# Altium schematic symbol library SCH - MCU - STM32 - ST MICROELECTRONICS STM32G071EBYX WLCSP25.SchLib: 1 symbol
Pins are listed as number, name and electrical type; pins without a type are passive.

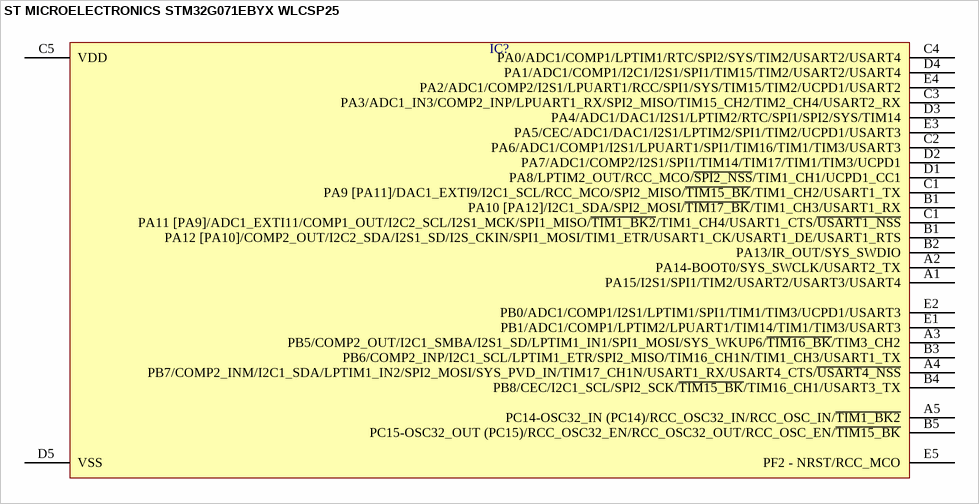
[diagram p0: symbol ST MICROELECTRONICS STM32G071EBYX WLCSP25]

## ST MICROELECTRONICS STM32G071EBYX WLCSP25
designator IC?  (value not drawn)
pins: A1 PA15/I2S1/SPI1/TIM2/USART2/USART3/USART4, A2 PA14-BOOT0/SYS_SWCLK/USART2_TX, A3 PB5/COMP2_OUT/I2C1_SMBA/I2S1_SD/LPTIM1_IN1/SPI1_MOSI/SYS_WKUP6/~{TIM16_BK}/TIM3_CH2, A4 PB7/COMP2_INM/I2C1_SDA/LPTIM1_IN2/SPI2_MOSI/SYS_PVD_IN/TIM17_CH1N/USART1_RX/USART4_CTS/~{USART4_NSS}, A5 PC14-OSC32_IN (PC14)/RCC_OSC32_IN/RCC_OSC_IN/~{TIM1_BK2}, B1 PA10 [PA12]/I2C1_SDA/SPI2_MOSI/~{TIM17_BK}/TIM1_CH3/USART1_RX, B1 PA12 [PA10]/COMP2_OUT/I2C2_SDA/I2S1_SD/I2S_CKIN/SPI1_MOSI/TIM1_ETR/USART1_CK/USART1_DE/USART1_RTS, B2 PA13/IR_OUT/SYS_SWDIO, B3 PB6/COMP2_INP/I2C1_SCL/LPTIM1_ETR/SPI2_MISO/TIM16_CH1N/TIM1_CH3/USART1_TX, B4 PB8/CEC/I2C1_SCL/SPI2_SCK/~{TIM15_BK}/TIM16_CH1/USART3_TX, B5 PC15-OSC32_OUT (PC15)/RCC_OSC32_EN/RCC_OSC32_OUT/RCC_OSC_EN/~{TIM15_BK}, C1 PA9 [PA11]/DAC1_EXTI9/I2C1_SCL/RCC_MCO/SPI2_MISO/~{TIM15_BK}/TIM1_CH2/USART1_TX, C1 PA11 [PA9]/ADC1_EXTI11/COMP1_OUT/I2C2_SCL/I2S1_MCK/SPI1_MISO/~{TIM1_BK2}/TIM1_CH4/USART1_CTS/~{USART1_NSS}, C2 PA6/ADC1/COMP1/I2S1/LPUART1/SPI1/TIM16/TIM1/TIM3/USART3, C3 PA3/ADC1_IN3/COMP2_INP/LPUART1_RX/SPI2_MISO/TIM15_CH2/TIM2_CH4/USART2_RX, C4 PA0/ADC1/COMP1/LPTIM1/RTC/SPI2/SYS/TIM2/USART2/USART4, C5 VDD, D1 PA8/LPTIM2_OUT/RCC_MCO/~{SPI2_NSS}/TIM1_CH1/UCPD1_CC1, D2 PA7/ADC1/COMP2/I2S1/SPI1/TIM14/TIM17/TIM1/TIM3/UCPD1, D3 PA4/ADC1/DAC1/I2S1/LPTIM2/RTC/SPI1/SPI2/SYS/TIM14, D4 PA1/ADC1/COMP1/I2C1/I2S1/SPI1/TIM15/TIM2/USART2/USART4, D5 VSS, E1 PB1/ADC1/COMP1/LPTIM2/LPUART1/TIM14/TIM1/TIM3/USART3, E2 PB0/ADC1/COMP1/I2S1/LPTIM1/SPI1/TIM1/TIM3/UCPD1/USART3, E3 PA5/CEC/ADC1/DAC1/I2S1/LPTIM2/SPI1/TIM2/UCPD1/USART3, E4 PA2/ADC1/COMP2/I2S1/LPUART1/RCC/SPI1/SYS/TIM15/TIM2/UCPD1/USART2, E5 PF2 - NRST/RCC_MCO